# Altium footprint library TestPoint.PcbLib: 3 footprints
Each footprint in its own frame and in the unit in brackets; x right, y up, seen from the top. Pads: shape width x height; smd on the part's side, far side on the other; paste and mask are expansions set on the pad; w line width, h text height; cw(c..) or ccw(c..) is an arc to the next point about the centre after c.
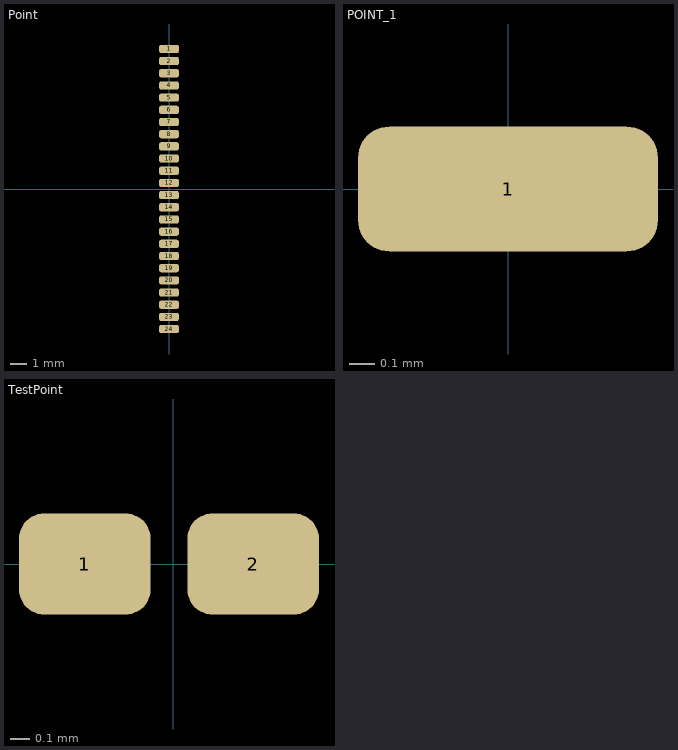
[diagram p0: the footprints below, top view; thin cyan lines are the x and y axes]

## Point [mm]
pads (24):
  rrect50% 1.2x0.5 smd: 1(0,8.5) 2(0,7.761) 3(0,7.021) 4(0,6.282) 5(0,5.543) 6(0,4.804) 7(0,4.065) 8(0,3.326) 9(0,2.587) 10(0,1.848) 11(0,1.109) 12(0,0.37) 13(0,-0.37) 14(0,-1.109) 15(0,-1.848) 16(0,-2.587) 17(0,-3.326) 18(0,-4.065) 19(0,-4.804) 20(0,-5.543) 21(0,-6.282) 22(0,-7.021) 23(0,-7.761) 24(0,-8.5)

## POINT_1 [mm]
pads (1):
  rrect50% 1.2x0.5 smd: 1(0,0)

## TestPoint [mil]
pads (2):
  rrect50% 26x20 smd: 1(-17.5,0) 2(15.75,0)